# EAGLE library part LINX-GPS-R4 (library kotuku)
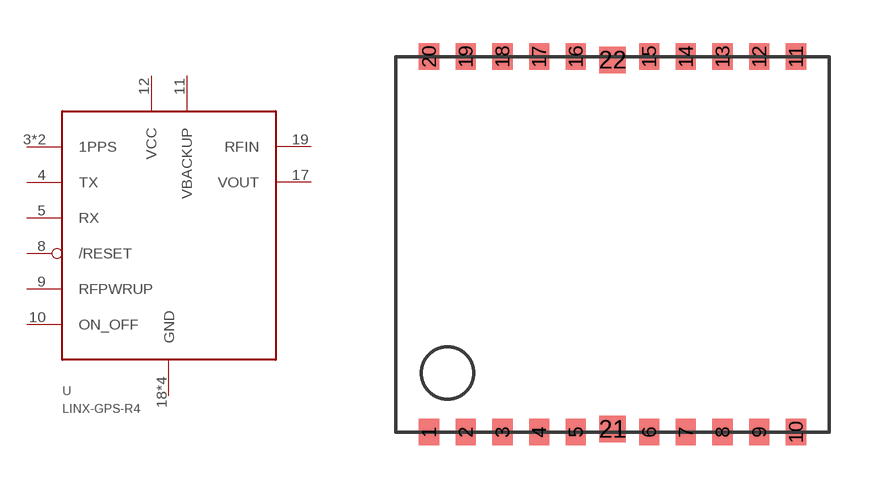
[diagram p6: symbol with the pads of LINX-R4; footprint LINX-R4]

Designator prefix U

## LINX-GPS-R4  [LINX-R4]
3  1PPS  out
4  TX  out
5  RX  in
7  1PPS  out
8  /RESET  in
9  RFPWRUP  out
10  ON_OFF  in
11  VBACKUP  pwr
12  VCC  pwr
17  VOUT  out
18  GND  pwr
19  RFIN  in
20  GND  pwr
21  GND  pwr
22  GND  pwr

## Footprint LINX-R4 (pad centres in mm)
smd 0.7 x 0.92: 1 -6.35,-6.5; 2 -5.08,-6.5; 3 -3.81,-6.5; 4 -2.54,-6.5; 5 -1.27,-6.5; 6 1.27,-6.5; 7 2.54,-6.5; 8 3.81,-6.5; 9 5.08,-6.5; 10 6.35,-6.5; 11 6.35,6.5; 12 5.08,6.5; 13 3.81,6.5; 14 2.54,6.5; 15 1.27,6.5; 16 -1.27,6.5; 17 -2.54,6.5; 18 -3.81,6.5; 19 -5.08,6.5; 20 -6.35,6.5
smd 0.92 x 0.92: 21 0,-6.39; 22 0,6.39